# Altium schematic symbol library CP2102-GM.Schlib: 1 symbol
Pins are listed as number, name and electrical type; pins without a type are passive.

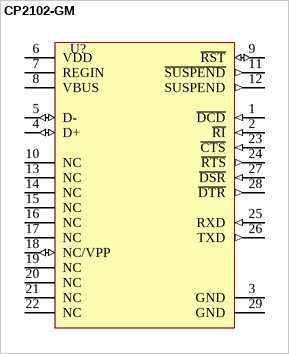
[diagram p0: symbol CP2102-GM]

## CP2102-GM
designator U?
SINGLE-CHIP USB- TO-UART BRIDGE
pins: 1 ~{DCD} (in), 2 ~{RI} (in), 3 GND (power), 4 D+ (io), 5 D- (io), 6 VDD (power), 7 REGIN (power), 8 VBUS (power), 9 ~{RST} (io), 10 NC (power), 11 ~{SUSPEND} (out), 12 SUSPEND (out), 13 NC (power), 14 NC (power), 15 NC (power), 16 NC (power), 17 NC (power), 18 NC/VPP (io), 19 NC (power), 20 NC (power), 21 NC (power), 22 NC (power), 23 ~{CTS} (in), 24 ~{RTS} (out), 25 RXD (in), 26 TXD (out), 27 ~{DSR} (in), 28 ~{DTR} (out), 29 GND (power)